# Altium schematic symbol library AM6411AKCGHAALV.SchLib: 2 symbols
Pins are listed as number, name and electrical type; pins without a type are passive.

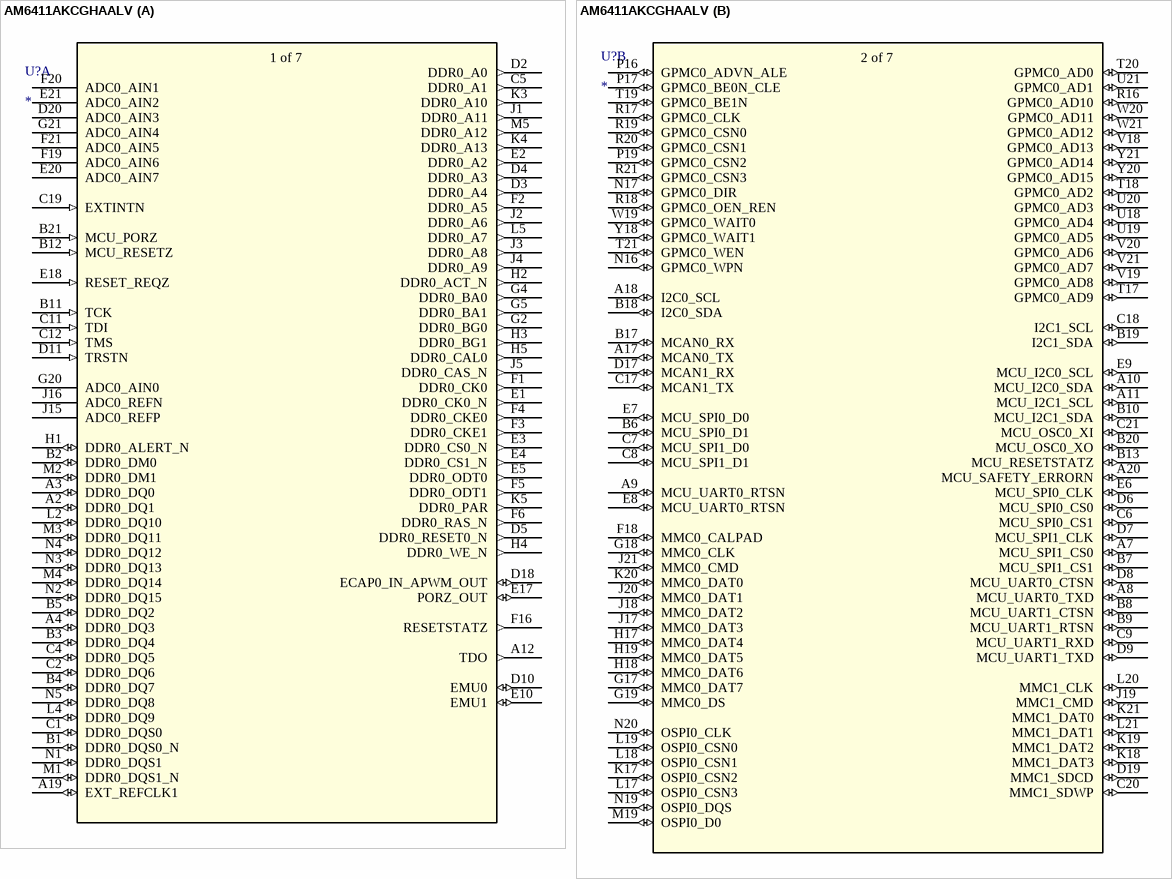
[diagram p0: symbol AM6411AKCGHAALV]

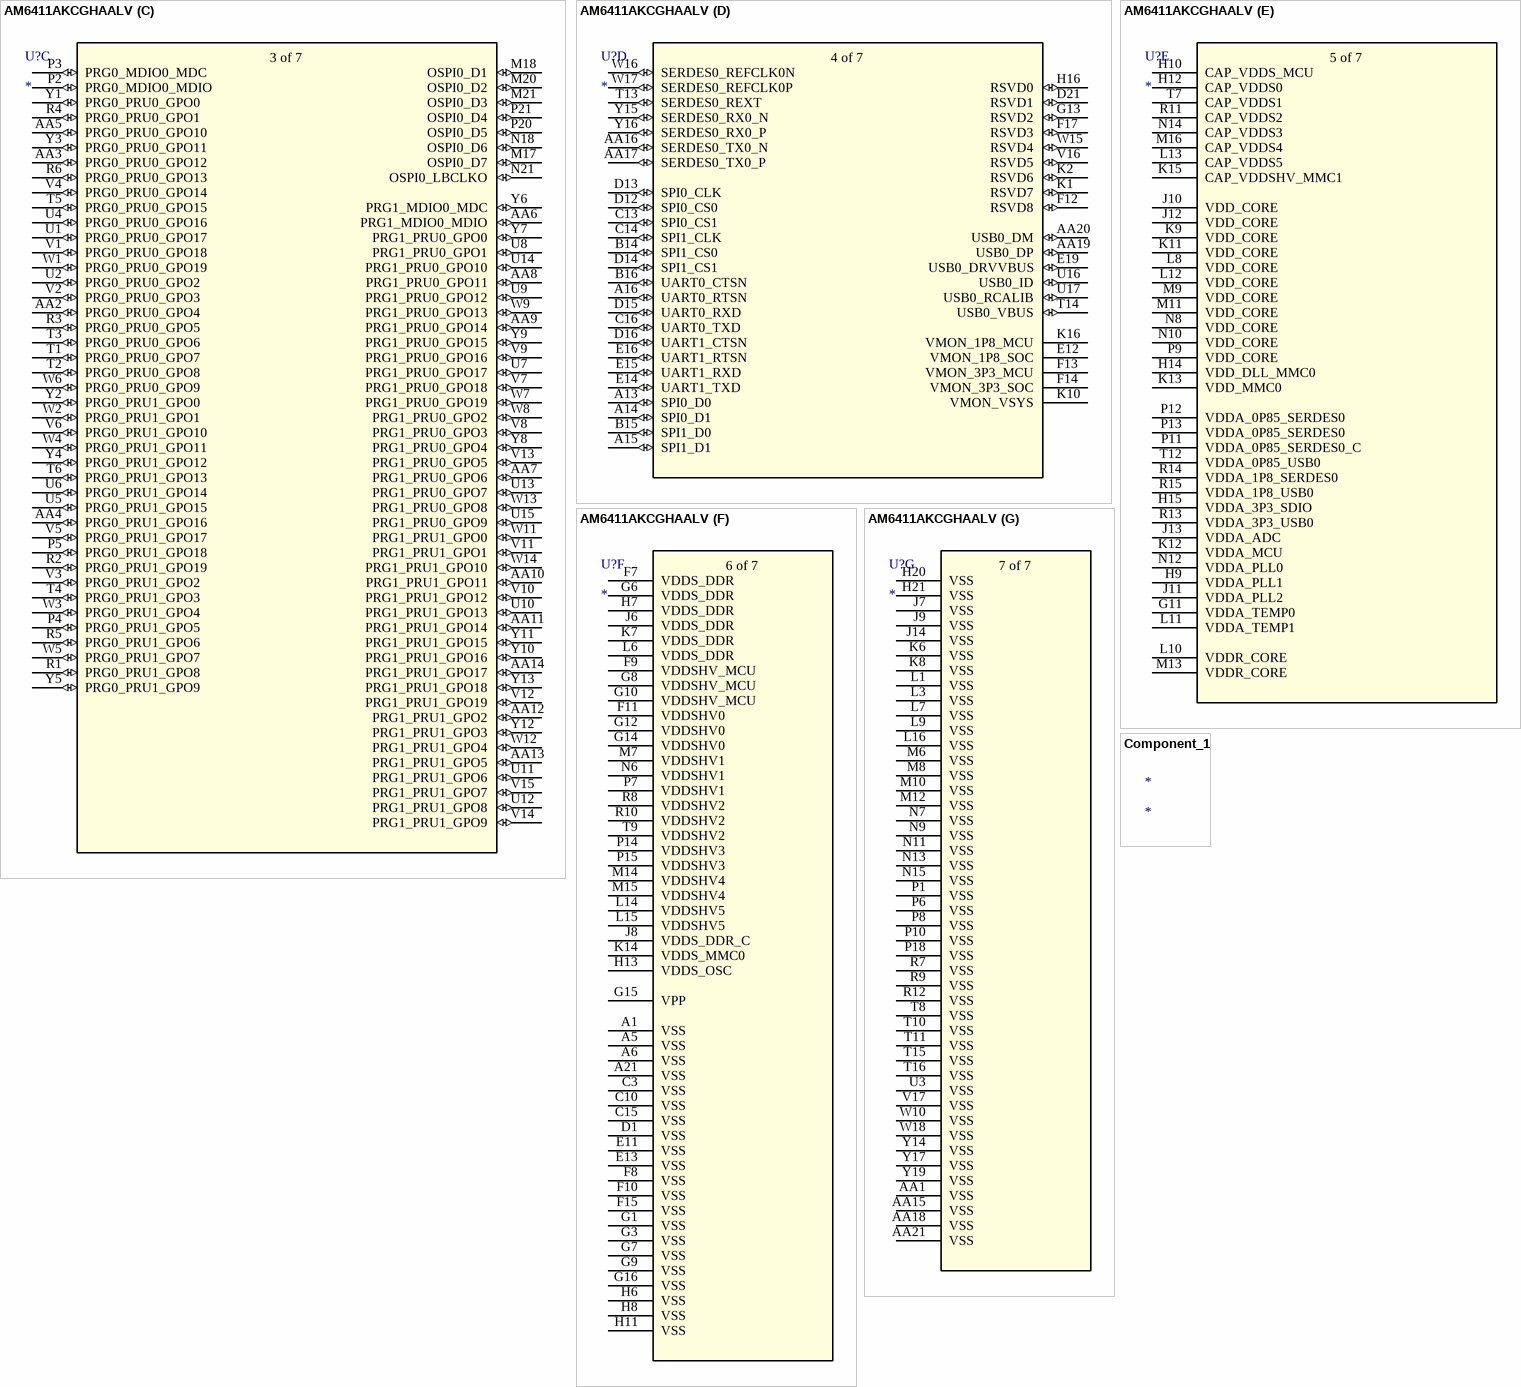
[diagram p1: symbols AM6411AKCGHAALV to Component_1]

## AM6411AKCGHAALV
designator U?
No Description Available; Mfr_Name: Texas Instruments; RefDes: RefDes; Type: Type
footprint FCBGA441_ALV_TEX
part A pins: A2 DDR0_DQ1 (io), A3 DDR0_DQ0 (io), A4 DDR0_DQ3 (io), A12 TDO (out), A19 EXT_REFCLK1 (io), B1 DDR0_DQS0_N (io), B2 DDR0_DM0 (io), B3 DDR0_DQ4 (io), B4 DDR0_DQ7 (io), B5 DDR0_DQ2 (io), B11 TCK (in), B12 MCU_RESETZ (in), B21 MCU_PORZ (in), C1 DDR0_DQS0 (io), C2 DDR0_DQ6 (io), C4 DDR0_DQ5 (io), C5 DDR0_A1 (out), C11 TDI (in), C12 TMS (in), C19 EXTINTN (in), D2 DDR0_A0 (out), D3 DDR0_A4 (out), D4 DDR0_A3 (out), D5 DDR0_RESET0_N (out), D10 EMU0 (io), D11 TRSTN (in), D18 ECAP0_IN_APWM_OUT (io), D20 ADC0_AIN3, E1 DDR0_CK0_N (out), E2 DDR0_A2 (out), E3 DDR0_CS0_N (out), E4 DDR0_CS1_N (out), E5 DDR0_ODT0 (out), E10 EMU1 (io), E17 PORZ_OUT (io), E18 RESET_REQZ (in), E20 ADC0_AIN7, E21 ADC0_AIN2, F1 DDR0_CK0 (out), F2 DDR0_A5 (out), F3 DDR0_CKE1 (out), F4 DDR0_CKE0 (out), F5 DDR0_ODT1 (out), F6 DDR0_RAS_N (out), F16 RESETSTATZ (out), F19 ADC0_AIN6, F20 ADC0_AIN1, F21 ADC0_AIN5, G2 DDR0_BG0 (out), G4 DDR0_BA0 (out), G5 DDR0_BA1 (out), G20 ADC0_AIN0, G21 ADC0_AIN4, H1 DDR0_ALERT_N (io), H2 DDR0_ACT_N (out), H3 DDR0_BG1 (out), H4 DDR0_WE_N (out), H5 DDR0_CAL0 (out), J1 DDR0_A11 (out), J2 DDR0_A6 (out), J3 DDR0_A8 (out), J4 DDR0_A9 (out), J5 DDR0_CAS_N (out), J15 ADC0_REFP, J16 ADC0_REFN, K3 DDR0_A10 (out), K4 DDR0_A13 (out), K5 DDR0_PAR (out), L2 DDR0_DQ10 (io), L4 DDR0_DQ9 (io), L5 DDR0_A7 (out), M1 DDR0_DQS1_N (io), M2 DDR0_DM1 (io), M3 DDR0_DQ11 (io), M4 DDR0_DQ14 (io), M5 DDR0_A12 (out), N1 DDR0_DQS1 (io), N2 DDR0_DQ15 (io), N3 DDR0_DQ13 (io), N4 DDR0_DQ12 (io), N5 DDR0_DQ8 (io)
part B pins: A7 MCU_SPI1_CS0 (io), A8 MCU_UART0_TXD (io), A9 MCU_UART0_RTSN (io), A10 MCU_I2C0_SDA (io), A11 MCU_I2C1_SCL (io), A17 MCAN0_TX (io), A18 I2C0_SCL (io), A20 MCU_SAFETY_ERRORN (io), B6 MCU_SPI0_D1 (io), B7 MCU_SPI1_CS1 (io), B8 MCU_UART1_CTSN (io), B9 MCU_UART1_RTSN (io), B10 MCU_I2C1_SDA (io), B13 MCU_RESETSTATZ (io), B17 MCAN0_RX (io), B18 I2C0_SDA (io), B19 I2C1_SDA (io), B20 MCU_OSC0_XO (io), C6 MCU_SPI0_CS1 (io), C7 MCU_SPI1_D0 (io), C8 MCU_SPI1_D1 (io), C9 MCU_UART1_RXD (io), C17 MCAN1_TX (io), C18 I2C1_SCL (io), C20 MMC1_SDWP (io), C21 MCU_OSC0_XI (io), D6 MCU_SPI0_CS0 (io), D7 MCU_SPI1_CLK (io), D8 MCU_UART0_CTSN (io), D9 MCU_UART1_TXD (io), D17 MCAN1_RX (io), D19 MMC1_SDCD (io), E6 MCU_SPI0_CLK (io), E7 MCU_SPI0_D0 (io), E8 MCU_UART0_RTSN (io), E9 MCU_I2C0_SCL (io), F18 MMC0_CALPAD (io), G17 MMC0_DAT7 (io), G18 MMC0_CLK (io), G19 MMC0_DS (io), H17 MMC0_DAT4 (io), H18 MMC0_DAT6 (io), H19 MMC0_DAT5 (io), J17 MMC0_DAT3 (io), J18 MMC0_DAT2 (io), J19 MMC1_CMD (io), J20 MMC0_DAT1 (io), J21 MMC0_CMD (io), K17 OSPI0_CSN2 (io), K18 MMC1_DAT3 (io), K19 MMC1_DAT2 (io), K20 MMC0_DAT0 (io), K21 MMC1_DAT0 (io), L17 OSPI0_CSN3 (io), L18 OSPI0_CSN1 (io), L19 OSPI0_CSN0 (io), L20 MMC1_CLK (io), L21 MMC1_DAT1 (io), M19 OSPI0_D0 (io), N16 GPMC0_WPN (io), N17 GPMC0_DIR (io), N19 OSPI0_DQS (io), N20 OSPI0_CLK (io), P16 GPMC0_ADVN_ALE (io), P17 GPMC0_BE0N_CLE (io), P19 GPMC0_CSN2 (io), R16 GPMC0_AD10 (io), R17 GPMC0_CLK (io), R18 GPMC0_OEN_REN (io), R19 GPMC0_CSN0 (io), R20 GPMC0_CSN1 (io), R21 GPMC0_CSN3 (io), T17 GPMC0_AD9 (io), T18 GPMC0_AD2 (io), T19 GPMC0_BE1N (io), T20 GPMC0_AD0 (io), T21 GPMC0_WEN (io), U18 GPMC0_AD4 (io), U19 GPMC0_AD5 (io), U20 GPMC0_AD3 (io), U21 GPMC0_AD1 (io), V18 GPMC0_AD13 (io), V19 GPMC0_AD8 (io), V20 GPMC0_AD6 (io), V21 GPMC0_AD7 (io), W19 GPMC0_WAIT0 (io), W20 GPMC0_AD11 (io), W21 GPMC0_AD12 (io), Y18 GPMC0_WAIT1 (io), Y20 GPMC0_AD15 (io), Y21 GPMC0_AD14 (io)
part C pins: AA2 PRG0_PRU0_GPO4 (io), AA3 PRG0_PRU0_GPO12 (io), AA4 PRG0_PRU1_GPO16 (io), AA5 PRG0_PRU0_GPO10 (io), AA6 PRG1_MDIO0_MDIO (io), AA7 PRG1_PRU0_GPO6 (io), AA8 PRG1_PRU0_GPO11 (io), AA9 PRG1_PRU0_GPO14 (io), AA10 PRG1_PRU1_GPO11 (io), AA11 PRG1_PRU1_GPO14 (io), AA12 PRG1_PRU1_GPO2 (io), AA13 PRG1_PRU1_GPO5 (io), AA14 PRG1_PRU1_GPO17 (io), M17 OSPI0_D7 (io), M18 OSPI0_D1 (io), M20 OSPI0_D2 (io), M21 OSPI0_D3 (io), N18 OSPI0_D6 (io), N21 OSPI0_LBCLKO (io), P2 PRG0_MDIO0_MDIO (io), P3 PRG0_MDIO0_MDC (io), P4 PRG0_PRU1_GPO5 (io), P5 PRG0_PRU1_GPO18 (io), P20 OSPI0_D5 (io), P21 OSPI0_D4 (io), R1 PRG0_PRU1_GPO8 (io), R2 PRG0_PRU1_GPO19 (io), R3 PRG0_PRU0_GPO5 (io), R4 PRG0_PRU0_GPO1 (io), R5 PRG0_PRU1_GPO6 (io), R6 PRG0_PRU0_GPO13 (io), T1 PRG0_PRU0_GPO7 (io), T2 PRG0_PRU0_GPO8 (io), T3 PRG0_PRU0_GPO6 (io), T4 PRG0_PRU1_GPO3 (io), T5 PRG0_PRU0_GPO15 (io), T6 PRG0_PRU1_GPO13 (io), U1 PRG0_PRU0_GPO17 (io), U2 PRG0_PRU0_GPO2 (io), U4 PRG0_PRU0_GPO16 (io), U5 PRG0_PRU1_GPO15 (io), U6 PRG0_PRU1_GPO14 (io), U7 PRG1_PRU0_GPO17 (io), U8 PRG1_PRU0_GPO1 (io), U9 PRG1_PRU0_GPO12 (io), U10 PRG1_PRU1_GPO13 (io), U11 PRG1_PRU1_GPO6 (io), U12 PRG1_PRU1_GPO8 (io), U13 PRG1_PRU0_GPO7 (io), U14 PRG1_PRU0_GPO10 (io), U15 PRG1_PRU0_GPO9 (io), V1 PRG0_PRU0_GPO18 (io), V2 PRG0_PRU0_GPO3 (io), V3 PRG0_PRU1_GPO2 (io), V4 PRG0_PRU0_GPO14 (io), V5 PRG0_PRU1_GPO17 (io), V6 PRG0_PRU1_GPO10 (io), V7 PRG1_PRU0_GPO18 (io), V8 PRG1_PRU0_GPO3 (io), V9 PRG1_PRU0_GPO16 (io), V10 PRG1_PRU1_GPO12 (io), V11 PRG1_PRU1_GPO1 (io), V12 PRG1_PRU1_GPO19 (io), V13 PRG1_PRU0_GPO5 (io), V14 PRG1_PRU1_GPO9 (io), V15 PRG1_PRU1_GPO7 (io), W1 PRG0_PRU0_GPO19 (io), W2 PRG0_PRU1_GPO1 (io), W3 PRG0_PRU1_GPO4 (io), W4 PRG0_PRU1_GPO11 (io), W5 PRG0_PRU1_GPO7 (io), W6 PRG0_PRU0_GPO9 (io), W7 PRG1_PRU0_GPO19 (io), W8 PRG1_PRU0_GPO2 (io), W9 PRG1_PRU0_GPO13 (io), W11 PRG1_PRU1_GPO0 (io), W12 PRG1_PRU1_GPO4 (io), W13 PRG1_PRU0_GPO8 (io), W14 PRG1_PRU1_GPO10 (io), Y1 PRG0_PRU0_GPO0 (io), Y2 PRG0_PRU1_GPO0 (io), Y3 PRG0_PRU0_GPO11 (io), Y4 PRG0_PRU1_GPO12 (io), Y5 PRG0_PRU1_GPO9 (io), Y6 PRG1_MDIO0_MDC (io), Y7 PRG1_PRU0_GPO0 (io), Y8 PRG1_PRU0_GPO4 (io), Y9 PRG1_PRU0_GPO15 (io), Y10 PRG1_PRU1_GPO16 (io), Y11 PRG1_PRU1_GPO15 (io), Y12 PRG1_PRU1_GPO3 (io), Y13 PRG1_PRU1_GPO18 (io)
part D pins: A13 SPI0_D0 (io), A14 SPI0_D1 (io), A15 SPI1_D1 (io), A16 UART0_RTSN (io), AA16 SERDES0_TX0_N (io), AA17 SERDES0_TX0_P (io), AA19 USB0_DP (io), AA20 USB0_DM (io), B14 SPI1_CS0 (io), B15 SPI1_D0 (io), B16 UART0_CTSN (io), C13 SPI0_CS1 (io), C14 SPI1_CLK (io), C16 UART0_TXD (io), D12 SPI0_CS0 (io), D13 SPI0_CLK (io), D14 SPI1_CS1 (io), D15 UART0_RXD (io), D16 UART1_CTSN (io), D21 RSVD1 (io), E12 VMON_1P8_SOC, E14 UART1_TXD (io), E15 UART1_RXD (io), E16 UART1_RTSN (io), E19 USB0_DRVVBUS (io), F12 RSVD8 (io), F13 VMON_3P3_MCU, F14 VMON_3P3_SOC, F17 RSVD3 (io), G13 RSVD2 (io), H16 RSVD0 (io), K1 RSVD7 (io), K2 RSVD6 (io), K10 VMON_VSYS, K16 VMON_1P8_MCU, T13 SERDES0_REXT (io), T14 USB0_VBUS (io), U16 USB0_ID (io), U17 USB0_RCALIB (io), V16 RSVD5 (io), W15 RSVD4 (io), W16 SERDES0_REFCLK0N (io), W17 SERDES0_REFCLK0P (io), Y15 SERDES0_RX0_N (io), Y16 SERDES0_RX0_P (io)
part E pins: G11 VDDA_TEMP0 (power), H9 VDDA_PLL1 (power), H10 CAP_VDDS_MCU (power), H12 CAP_VDDS0 (power), H14 VDD_DLL_MMC0 (power), H15 VDDA_3P3_SDIO (power), J10 VDD_CORE (power), J11 VDDA_PLL2 (power), J12 VDD_CORE (power), J13 VDDA_ADC (power), K9 VDD_CORE (power), K11 VDD_CORE (power), K12 VDDA_MCU (power), K13 VDD_MMC0 (power), K15 CAP_VDDSHV_MMC1 (power), L8 VDD_CORE (power), L10 VDDR_CORE (power), L11 VDDA_TEMP1 (power), L12 VDD_CORE (power), L13 CAP_VDDS5 (power), M9 VDD_CORE (power), M11 VDD_CORE (power), M13 VDDR_CORE (power), M16 CAP_VDDS4 (power), N8 VDD_CORE (power), N10 VDD_CORE (power), N12 VDDA_PLL0 (power), N14 CAP_VDDS3 (power), P9 VDD_CORE (power), P11 VDDA_0P85_SERDES0_C (power), P12 VDDA_0P85_SERDES0 (power), P13 VDDA_0P85_SERDES0 (power), R11 CAP_VDDS2 (power), R13 VDDA_3P3_USB0 (power), R14 VDDA_1P8_SERDES0 (power), R15 VDDA_1P8_USB0 (power), T7 CAP_VDDS1 (power), T12 VDDA_0P85_USB0 (power)
part F pins: A1 VSS (power), A5 VSS (power), A6 VSS (power), A21 VSS (power), C3 VSS (power), C10 VSS (power), C15 VSS (power), D1 VSS (power), E11 VSS (power), E13 VSS (power), F7 VDDS_DDR (power), F8 VSS (power), F9 VDDSHV_MCU (power), F10 VSS (power), F11 VDDSHV0 (power), F15 VSS (power), G1 VSS (power), G3 VSS (power), G6 VDDS_DDR (power), G7 VSS (power), G8 VDDSHV_MCU (power), G9 VSS (power), G10 VDDSHV_MCU (power), G12 VDDSHV0 (power), G14 VDDSHV0 (power), G15 VPP (power), G16 VSS (power), H6 VSS (power), H7 VDDS_DDR (power), H8 VSS (power), H11 VSS (power), H13 VDDS_OSC (power), J6 VDDS_DDR (power), J8 VDDS_DDR_C (power), K7 VDDS_DDR (power), K14 VDDS_MMC0 (power), L6 VDDS_DDR (power), L14 VDDSHV5 (power), L15 VDDSHV5 (power), M7 VDDSHV1 (power), M14 VDDSHV4 (power), M15 VDDSHV4 (power), N6 VDDSHV1 (power), P7 VDDSHV1 (power), P14 VDDSHV3 (power), P15 VDDSHV3 (power), R8 VDDSHV2 (power), R10 VDDSHV2 (power), T9 VDDSHV2 (power)
part G pins: AA1 VSS (power), AA15 VSS (power), AA18 VSS (power), AA21 VSS (power), H20 VSS (power), H21 VSS (power), J7 VSS (power), J9 VSS (power), J14 VSS (power), K6 VSS (power), K8 VSS (power), L1 VSS (power), L3 VSS (power), L7 VSS (power), L9 VSS (power), L16 VSS (power), M6 VSS (power), M8 VSS (power), M10 VSS (power), M12 VSS (power), N7 VSS (power), N9 VSS (power), N11 VSS (power), N13 VSS (power), N15 VSS (power), P1 VSS (power), P6 VSS (power), P8 VSS (power), P10 VSS (power), P18 VSS (power), R7 VSS (power), R9 VSS (power), R12 VSS (power), T8 VSS (power), T10 VSS (power), T11 VSS (power), T15 VSS (power), T16 VSS (power), U3 VSS (power), V17 VSS (power), W10 VSS (power), W18 VSS (power), Y14 VSS (power), Y17 VSS (power), Y19 VSS (power)
part A text: 1 of 7
part B text: 2 of 7
part C text: 3 of 7
part D text: 4 of 7
part E text: 5 of 7
part F text: 6 of 7
part G text: 7 of 7

## Component_1
designator *